# Altium schematic symbol library SamacSys.SchLib: 14 symbols
Pins are listed as number, name and electrical type; pins without a type are passive.

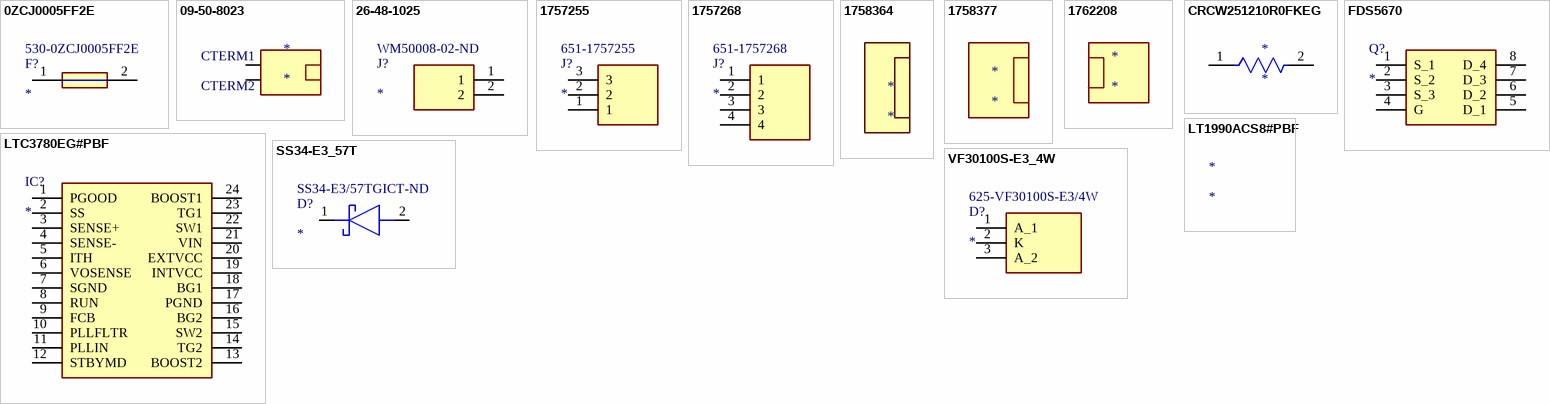
[diagram p0: symbols 0ZCJ0005FF2E to VF30100S-E3_4W]

## 0ZCJ0005FF2E
designator F?  Supplier Part Number 1: 530-0ZCJ0005FF2E
Fuse; Manufacturer_Name: Bel Circuit Protection; Manufacturer_Part_Number: 0ZCJ0005FF2E; Datasheet Link: https://www.belfuse.com/resources/datasheets/circuitprotection/ds-cp-0zcj-series.pdf; Height: 0.85mm; Arrow Part Number: 0ZCJ0005FF2E; Arrow Price/Stock: https://www.arrow.com/en/products/0zcj0005ff2e/bel-group; Supplier 1: Mouser
footprint FUSC3216X85N
pins: 1, 2

## 09-50-8023
designator *
Connector Housing Receptacle 2 Position 3.96mm Straight Bag; Manufacturer: Molex; Body Material: PBT,Polyester; Number of Contacts: 2; Max Voltage Rating (AC): 250V; Max Current Rating: 7A; Gender: Female; Approvals: UL,CSA; Supplier 1: Mouser; Manufacturer Part Number: 09-50-8023; RoHS: Yes; Category: Connectors; Pricing 1: 1=0.22000, 10=0.17700, 50=0.17700, 100=0.12700, 1000=0.10000, 10000=0.07700 (USD); Mount: Free Hanging,Cable; Housing Color: Natural; Housing Material: Polyester; Color: Natural; Material: Polyester; Min Operating Temperature: 0°C; Max Operating Temperature: 75°C; Orientation: Straight; Number of Rows: 1; Packaging: Bulk; Series: KK® 41695; Contact Gender: Female; Package Quantity: 2500; Connector Type: Receptacle; Number of Positions: 2; Termination: Crimp; Fastening Type: Ramp; Contact Type: Non-Gendered; Length: 8.79mm; Width: 15.88mm; Height: 8.07mm; Pitch: 3.96mm; Depth: 15.88mm; Radiation Hardening: No; REACH SVHC: Unknown; RoHS Compliant: Yes; Lead Free: Lead Free; Flammability Rating: UL94 V-0; ComponentLink1URL: https://datasheet.ciiva.com/10401/0009508023-crimp-housings-10401153.pdf?src-supplier=Avnet; ComponentLink1Description: https://datasheet.ciiva.com/10401/0009508023-crimp-housings-10401153.pdf?src-supplier=Avnet; ComponentLink2URL: https://datasheet.ciiva.com/1111/99335-1111034.pdf?src-supplier=Element14; ComponentLink2Description: https://datasheet.ciiva.com/1111/99335-1111034.pdf?src-supplier=Element14; ComponentLink3URL: https://datasheet.ciiva.com/19473/1960927-19473582.pdf?src-supplier=Jameco; ComponentLink3Description: https://datasheet.ciiva.com/19473/1960927-19473582.pdf?src-supplier=Jameco; ComponentLink4URL: https://datasheet.ciiva.com/18453/70190765-18453861.pdf?src-supplier=Allied+Electronics; ComponentLink4Description: https://datasheet.ciiva.com/18453/70190765-18453861.pdf?src-supplier=Allied+Electronics; ComponentLink5URL: https://datasheet.ciiva.com/19473/736747-19473771.pdf?src-supplier=Jameco; ComponentLink5Description: https://datasheet.ciiva.com/19473/736747-19473771.pdf?src-supplier=Jameco; ComponentLink6URL: https://datasheet.ciiva.com/15217/getdatasheetpartid-309062-15217245.pdf?src-supplier=Verical; ComponentLink6Description: https://datasheet.ciiva.com/15217/getdatasheetpartid-309062-15217245.pdf?src-supplier=Verical; ComponentLink7URL: https://datasheet.ciiva.com/16661/0009508023-crimp-housings-16661293.pdf?src-supplier=Avnet+Europe; ComponentLink7Description: https://datasheet.ciiva.com/16661/0009508023-crimp-housings-16661293.pdf?src-supplier=Avnet+Europe; Supplier Part Number 1: 538-09-50-8023; Stock 1: 12416
footprint Connector_09-50-8023
text: CTERM1; CTERM2

## 26-48-1025
designator J?  Supplier Part Number 1: WM50008-02-ND
Connector; Manufacturer_Name: Molex; Datasheet Link: https://www.molex.com/pdm_docs/sd/026481025_sd.pdf; Height: 14.68mm; Manufacturer_Part_Number: 26-48-1025; Mouser Part Number: 538-26-48-1025; Mouser Price/Stock: https://www.mouser.co.uk/ProductDetail/Molex/26-48-1025?qs=Vtbn2VVmZzHbNAFdpV%2FLOg%3D%3D; Supplier 1: Digi-Key
footprint SHDR2W155P0X396_1X2_732X902X1468P
pins: 1, 2

## 1757255
designator J?  Supplier Part Number 1: 651-1757255
Connector; Manufacturer_Name: Phoenix Contact; Manufacturer_Part_Number: 1757255; Datasheet Link: https://datasheet.datasheetarchive.com/originals/distributors/SFDatasheet-2/sf-00051650.pdf; Height: 8.75mm; Mouser Part Number: 651-1757255; Mouser Price/Stock: https://www.mouser.co.uk/ProductDetail/Phoenix-Contact/1757255?qs=uD%2FdkN7XIa0ez8xszzicKg%3D%3D; Arrow Part Number: 1757255; Arrow Price/Stock: https://www.arrow.com/en/products/1757255/phoenix-contact?region=nac; Supplier 1: Mouser
footprint SHDRRA3W103P0X508_1X3_1724X1200X875P
pins: 1, 2, 3

## 1757268
designator J?  Supplier Part Number 1: 651-1757268
Connector; Manufacturer_Name: Phoenix Contact; Manufacturer_Part_Number: 1757268; Datasheet Link: https://datasheet.datasheetarchive.com/originals/distributors/SFDatasheet-2/sf-00051651.pdf; Height: 8.75mm; Mouser Part Number: 651-1757268; Mouser Price/Stock: https://www.mouser.co.uk/ProductDetail/Phoenix-Contact/1757268?qs=uD%2FdkN7XIa2BicmSj3mD7g%3D%3D; Arrow Part Number: 1757268; Arrow Price/Stock: https://www.arrow.com/en/products/1757268/phoenix-contact?region=nac; Supplier 1: Mouser
footprint SHDRRA4W103P0X508_1X4_2232X1200X875P
pins: 1, 2, 3, 4

## 1758364
designator *
Conn Terminal Block F 2 POS 5.08mm Screw RA Cable Mount 12A; Manufacturer: Phoenix Contact; Manufacturer Part Number: 1758364; Voltage Rating: 250V; Number of Positions: 2; Number of Levels: 1; Current: 15A; Voltage: 300V; Gender: Female; Wire Gauge (Max): 12AWG; Wire Gauge (Min): 24AWG; Stripping Length: 7mm; Supplier 1: Digi-Key; RoHS: Yes; Category: Terminal Blocks; Stock 1: 1385; Pricing 1: 1=2.18000, 10=2.11900, 50=1.98000, 100=1.82160, 250=1.68300, 500=1.60380, 1000=1.52460 (USD); Mount: Free Hanging,Plug-In; Contact Plating: Tin; Color: Green; Contact Material: Tin; Weight: 0.133336oz; Housing Color: Green; Current Rating: 12A; Package Quantity: 50; Max Current Rating: 12A; Packaging: Bulk; Termination: Screw; Number of Positions Per Level: 2; Number of Contacts: 2; Connector Type: Screw; Number of Rows: 1; Series: COMBICON MSTB; Number of Poles: 2; Length: 10.16mm; Width: 18.3mm; Height: 15mm; Pitch: 5.08mm; RoHS Compliant: Yes; ComponentLink1URL: https://datasheet.ciiva.com/796/1758364-796729.pdf?src-supplier=Digi-Key; ComponentLink1Description: https://datasheet.ciiva.com/796/1758364-796729.pdf?src-supplier=Digi-Key; ComponentLink2URL: https://datasheet.ciiva.com/16096/1758364-16096513.pdf?src-supplier=Onlinecomponents.com; ComponentLink2Description: https://datasheet.ciiva.com/16096/1758364-16096513.pdf?src-supplier=Onlinecomponents.com; ComponentLink3URL: https://datasheet.ciiva.com/14607/70055300-14607547.pdf?src-supplier=Allied+Electronics; ComponentLink3Description: https://datasheet.ciiva.com/14607/70055300-14607547.pdf?src-supplier=Allied+Electronics; ComponentLink4URL: https://datasheet.ciiva.com/29222/569586-da-01-en-steckerteil-1758364-50-st-29222742.pdf?src-supplier=Conrad; ComponentLink4Description: https://datasheet.ciiva.com/29222/569586-da-01-en-steckerteil-1758364-50-st-29222742.pdf?src-supplier=Conrad; Supplier Part Number 1: 277-1964-ND
footprint Connector_1758364

## 1758377
designator *
Plug, Terminal Block; 12 A; 250 V; 5.08 mm; 4 position, screw, Pre-Printed; Manufacturer: Phoenix Contact; Manufacturer Part Number: 1758377; Voltage Rating: 250V; Max Current Rating: 12A; Number of Positions Per Level: 4; Number of Levels: 1; Current: 15A; Voltage: 300V; Wire Gauge (Max): 30AWG; Wire Gauge (Min): 12AWG; Pitch: 5.08mm; Stripping Length: 7mm; Supplier 1: Digi-Key; RoHS: Yes; Category: Terminal Blocks; Pricing 1: 1=4.53000, 10=4.33400, 50=4.21580, 100=3.94000, 250=3.62484, 500=3.34900, 1000=3.19143, 2500=3.03380 (USD); Mount: Free Hanging; Color: Green; Contact Plating: Tin; Weight: 0.249387oz; Housing Color: Green; Housing Material: Plastic; Package Quantity: 50; Packaging: Bulk; Current Rating: 12A; Termination: Screw; Number of Positions: 4; Number of Contacts: 4; Number of Poles: 4; Connector Type: Screw; Series: COMBICON MSTB; Flammability Rating: UL94 V-0; ComponentLink1URL: https://datasheet.ciiva.com/795/1758377-795513.pdf?src-supplier=Digi-Key; ComponentLink1Description: https://datasheet.ciiva.com/795/1758377-795513.pdf?src-supplier=Digi-Key; ComponentLink2URL: https://datasheet.ciiva.com/16046/1758377-16046392.pdf?src-supplier=Onlinecomponents.com; ComponentLink2Description: https://datasheet.ciiva.com/16046/1758377-16046392.pdf?src-supplier=Onlinecomponents.com; ComponentLink3URL: https://datasheet.ciiva.com/29376/567557-da-01-de-steckerteil-1758377-50-st-29376878.pdf?src-supplier=Conrad; ComponentLink3Description: https://datasheet.ciiva.com/29376/567557-da-01-de-steckerteil-1758377-50-st-29376878.pdf?src-supplier=Conrad; ComponentLink4URL: https://datasheet.ciiva.com/14607/70055302-14607548.pdf?src-supplier=Allied+Electronics; ComponentLink4Description: https://datasheet.ciiva.com/14607/70055302-14607548.pdf?src-supplier=Allied+Electronics; ComponentLink5URL: https://datasheet.ciiva.com/33106/1758377-33106027.pdf?src-supplier=Today+Components; ComponentLink5Description: https://datasheet.ciiva.com/33106/1758377-33106027.pdf?src-supplier=Today+Components; Supplier Part Number 1: 277-1966-ND; Stock 1: 560
footprint Connector_1758377

## 1762208
designator *
Plug, Terminal Block; 12 A; 250 V; 5.08 mm; 3 position, screw, Pre-Printed; Manufacturer: Phoenix Contact; Manufacturer Part Number: 1762208; Voltage Rating: 250V; Number of Poles: 3; Max Current Rating: 12A; Number of Levels: 1; Current: 15A; Voltage: 300V; Gender: Female; Pitch: 5.08mm; Wire Gauge (Max): 30AWG; Wire Gauge (Min): 12AWG; Stripping Length: 7mm; Supplier 1: Digi-Key; RoHS: Yes; Category: Terminal Blocks; Pricing 1: 1=3.21000, 10=3.12400, 50=2.92000, 100=2.68640, 250=2.48200, 500=2.36520, 1000=2.24840 (USD); Mount: Free Hanging,Plug-In,Cable; Color: Green; Contact Plating: Tin; Weight: 0.190479oz; Housing Color: Green; Housing Material: Plastic; Contact Material: Tin; Material: Polyamide; Package Quantity: 50; Packaging: Bulk; Termination: Screw; Series: COMBICON MSTB; Current Rating: 12A; Number of Positions Per Level: 3; Number of Positions: 3; Number of Contacts: 3; Number of Rows: 1; Connector Type: Screw; Orientation: Right Angle; Number of Circuits: 3; Length: 15mm; Width: 10.16mm; Height: 15.24mm; RoHS Compliant: Yes; Flammability Rating: UL94 V-0; ComponentLink1URL: https://datasheet.ciiva.com/795/1762208-795480.pdf?src-supplier=Digi-Key; ComponentLink1Description: https://datasheet.ciiva.com/795/1762208-795480.pdf?src-supplier=Digi-Key; ComponentLink2URL: https://datasheet.ciiva.com/3970/1762208-3970503.pdf?src-supplier=Arrow+Electronics; ComponentLink2Description: https://datasheet.ciiva.com/3970/1762208-3970503.pdf?src-supplier=Arrow+Electronics; ComponentLink3URL: https://datasheet.ciiva.com/16071/1762208-16071547.pdf?src-supplier=Onlinecomponents.com; ComponentLink3Description: https://datasheet.ciiva.com/16071/1762208-16071547.pdf?src-supplier=Onlinecomponents.com; ComponentLink4URL: https://datasheet.ciiva.com/14608/70055301-14608154.pdf?src-supplier=Allied+Electronics; ComponentLink4Description: https://datasheet.ciiva.com/14608/70055301-14608154.pdf?src-supplier=Allied+Electronics; ComponentLink5URL: https://datasheet.ciiva.com/29219/567120-da-01-en-steckerteil-1762208-50-st-29219722.pdf?src-supplier=Conrad; ComponentLink5Description: https://datasheet.ciiva.com/29219/567120-da-01-en-steckerteil-1762208-50-st-29219722.pdf?src-supplier=Conrad; Supplier Part Number 1: 277-1965-ND; Stock 1: 761
footprint Connector_1762208

## CRCW251210R0FKEG
designator *
Res Thick Film 2512 10 Ohm 1% 1W ±100ppm/°C Molded SMD SMD Blister T/R; Manufacturer: Vishay; Manufacturer Part Number: CRCW251210R0FKEG; Resistance: 10R; Voltage Rating: 500V; Supplier 1: Mouser; RoHS: Yes; Category: Chip SMD Resistors; Stock 1: 5388; Pricing 1: 1=0.39000, 10=0.33400, 50=0.33400, 100=0.13000, 1000=0.06300, 2000=0.05300, 10000=0.05300 (USD); Mount: Surface Mount; Case/Package: 2512; Number of Pins: 2; Case Code (Imperial): 2512; Case Code (Metric): 6432; Contact Plating: Tin; Weight: 0.001429oz; Size Code: 2512; Min Operating Temperature: -55°C; Max Operating Temperature: 155°C; Packaging: Tape and Reel; Tolerance: 1%; Power Rating: 1W; Package Quantity: 10; Termination: SMD/SMT; Resistor Type: Thick Film; Number of Terminations: 2; Temperature Coefficient: 100ppm/°C; Max Power Dissipation: 1W; Features: Automotive AEC-Q200; Voltage Rating (DC): 500V; Series: CRCW; Construction: Rectangular; Resistance Tolerance: 1%; Technology: THICK FILM; Length: 6.3mm; Width: 3.15mm; Height: 0.6mm; Depth: 3.15mm; Radiation Hardening: No; REACH SVHC: Unknown; Military Standard: Not; Lead Free: Lead Free; RoHS Compliant: Yes; ComponentLink1URL: https://datasheet.ciiva.com/11810/0900766b80d98bd1-11810521.pdf?src-supplier=RSComponents; ComponentLink1Description: https://datasheet.ciiva.com/11810/0900766b80d98bd1-11810521.pdf?src-supplier=RSComponents; ComponentLink2URL: https://datasheet.ciiva.com/2478/dcrcwe3-2478317.pdf?src-supplier=Digi-Key; ComponentLink2Description: https://datasheet.ciiva.com/2478/dcrcwe3-2478317.pdf?src-supplier=Digi-Key; ComponentLink3URL: https://datasheet.ciiva.com/2478/dcrcwe3-2478318.pdf?src-supplier=Digi-Key; ComponentLink3Description: https://datasheet.ciiva.com/2478/dcrcwe3-2478318.pdf?src-supplier=Digi-Key; ComponentLink4URL: https://datasheet.ciiva.com/2478/dcrcwe3-2478319.pdf?src-supplier=Digi-Key; ComponentLink4Description: https://datasheet.ciiva.com/2478/dcrcwe3-2478319.pdf?src-supplier=Digi-Key; ComponentLink5URL: https://datasheet.ciiva.com/9049/dcrcwe3-9049350.pdf?src-supplier=Avnet; ComponentLink5Description: https://datasheet.ciiva.com/9049/dcrcwe3-9049350.pdf?src-supplier=Avnet; ComponentLink6URL: https://datasheet.ciiva.com/9049/dcrcwe3-9049353.pdf?src-supplier=Avnet; ComponentLink6Description: https://datasheet.ciiva.com/9049/dcrcwe3-9049353.pdf?src-supplier=Avnet; ComponentLink7URL: https://datasheet.ciiva.com/16725/70201119-16725180.pdf?src-supplier=Allied+Electronics; ComponentLink7Description: https://datasheet.ciiva.com/16725/70201119-16725180.pdf?src-supplier=Allied+Electronics; ComponentLink8URL: https://datasheet.ciiva.com/16781/70201119-16781421.pdf?src-supplier=Allied+Electronics; ComponentLink8Description: https://datasheet.ciiva.com/16781/70201119-16781421.pdf?src-supplier=Allied+Electronics; Supplier Part Number 1: 71-CRCW2512-10-E3
footprint FP-CRCW2512-e3-IPC_A
pins: 1, 2

## FDS5670
designator Q?
MOSFET (N-Channel); Manufacturer_Name: ON Semiconductor; Manufacturer_Part_Number: FDS5670; Datasheet Link: https://eagle.componentsearchengine.com/Datasheets/2/FDS5670.pdf; Height: 1.75mm; Mouser Part Number: 512-FDS5670; Mouser Price/Stock: https://www.mouser.com/Search/Refine.aspx?Keyword=512-FDS5670; Arrow Part Number: FDS5670; Arrow Price/Stock: https://www.arrow.com/en/products/fds5670/on-semiconductor
footprint SOIC127P600X175-8N
pins: 1 S_1, 2 S_2, 3 S_3, 4 G, 5 D_1, 6 D_2, 7 D_3, 8 D_4

## LT1990ACS8#PBF
designator *
SP Amp DIFF AMP Single R-R O/P ±18V/36V Automotive 8-Pin SOIC N Tube; Manufacturer: Analog Devices / Linear Technology; Manufacturer Part Number: LT1990ACS8#PBF; Bandwidth: 100kHz; Number of Channels: 1; Common Mode Rejection Ratio: 70dB; Min Dual Supply Voltage: 1.35V; Max Dual Supply Voltage: 18V; -3db Bandwidth: 105kHz; Slew Rate: 0.55V/µs; Max Supply Voltage: 36V; Min Supply Voltage: 2.4V; Input Offset Voltage (Vos): 5.2mV; Operating Supply Current: 140uA; Output Current per Channel: 22mA; Power Supply Rejection Ratio (PSRR): 80dB; Input Resistance: 2MR; Amplifier Type: DIFFERENTIAL; Supplier 1: Mouser; RoHS: Yes; Category: Amplifiers - Op Amps, Buffer, Instrumentation; Stock 1: 55; Pricing 1: 1=5.20000, 10=4.67000, 50=4.42000, 100=3.82000, 1000=3.25000, 10000=3.25000 (USD); Case/Package: SOIC; Number of Pins: 8; Min Operating Temperature: 0°C; Max Operating Temperature: 70°C; Package Quantity: 100; Packaging: Rail/Tube; Nominal Gain Bandwidth Product: 100kHz; Number of Circuits: 1; Number of Amplifiers: 1; Number of Elements: 1; Radiation Hardening: No; REACH SVHC: No SVHC; Lead Free: Lead Free; RoHS Compliant: Yes; ComponentLink1URL: https://datasheet.ciiva.com/15128/getdatasheetpartid-371446-15128871.pdf?src-supplier=Verical; ComponentLink1Description: https://datasheet.ciiva.com/15128/getdatasheetpartid-371446-15128871.pdf?src-supplier=Verical; ComponentLink2URL: https://datasheet.ciiva.com/1802/5087-1802941.pdf?src-supplier=Digi-Key; ComponentLink2Description: https://datasheet.ciiva.com/1802/5087-1802941.pdf?src-supplier=Digi-Key; ComponentLink3URL: https://datasheet.ciiva.com/1492/1990fb-1492770.pdf?src-supplier=Farnell; ComponentLink3Description: https://datasheet.ciiva.com/1492/1990fb-1492770.pdf?src-supplier=Farnell; ComponentLink4URL: https://datasheet.ciiva.com/1485/1679607-1485298.pdf?src-supplier=Element14; ComponentLink4Description: https://datasheet.ciiva.com/1485/1679607-1485298.pdf?src-supplier=Element14; Supplier Part Number 1: 584-LT1990ACS8#PBF

## LTC3780EG#PBF
designator IC?
Integrated Circuit; Manufacturer_Name: Linear Technology; Manufacturer_Part_Number: LTC3780EG#PBF; Datasheet Link: https://datasheet.datasheetarchive.com/originals/distributors/Datasheets-SFU1/DSASFU10009110.pdf; Height: 2mm; Mouser Part Number: 584-LTC3780EG#PBF; Mouser Price/Stock: https://www.mouser.co.uk/ProductDetail/Analog-Devices-Linear-Technology/LTC3780EGPBF?qs=hVkxg5c3xu%252BOBZugU8NO3w%3D%3D; Arrow Part Number: LTC3780EG#PBF; Arrow Price/Stock: https://www.arrow.com/en/products/ltc3780egpbf/linear-technology
footprint SOP65P780X200-24N
pins: 1 PGOOD, 2 SS, 3 SENSE+, 4 SENSE-, 5 ITH, 6 VOSENSE, 7 SGND, 8 RUN, 9 FCB, 10 PLLFLTR, 11 PLLIN, 12 STBYMD, 13 BOOST2, 14 TG2, 15 SW2, 16 BG2, 17 PGND, 18 BG1, 19 INTVCC, 20 EXTVCC, 21 VIN, 22 SW1, 23 TG1, 24 BOOST1

## SS34-E3_57T
designator D?  Supplier Part Number 1: SS34-E3/57TGICT-ND
Schottky Diode; Manufacturer_Name: Vishay; Manufacturer_Part_Number: SS34-E3/57T; Datasheet Link: https://www.vishay.com/docs/88751/ss32.pdf; Height: 2.62mm; Mouser Part Number: 625-SS34-E3; Mouser Price/Stock: https://www.mouser.co.uk/ProductDetail/Vishay-General-Semiconductor/SS34-E3-57T?qs=x2jpVgRnAtMC3f38kYWnRw%3D%3D; Arrow Part Number: SS34-E3/57T; Arrow Price/Stock: https://www.arrow.com/en/products/ss34-e357t/vishay; Supplier 1: Digi-Key
footprint DIOM7959X262N
pins: 1 K, 2 A

## VF30100S-E3_4W
designator D?  Supplier Part Number 1: 625-VF30100S-E3/4W
Schottky Diode; Manufacturer_Name: Vishay; Manufacturer_Part_Number: VF30100S-E3/4W; Datasheet Link: http://www.vishay.com/docs/88941/v30100s.pdf; Height: 4.83mm; Mouser Part Number: 625-VF30100S-E3/4W; Mouser Price/Stock: https://www.mouser.com/Search/Refine.aspx?Keyword=625-VF30100S-E3%2F4W; Arrow Part Number: VF30100S-E3/4W; Arrow Price/Stock: https://www.arrow.com/en/products/vf30100s-e34w/vishay; Supplier 1: Mouser
footprint TO254P483X1000X2068-3P
pins: 1 A_1, 2 K, 3 A_2